# EAGLE library part MAX1169 (library be_dac)
edited: Mario Blunk / Blunk electronic
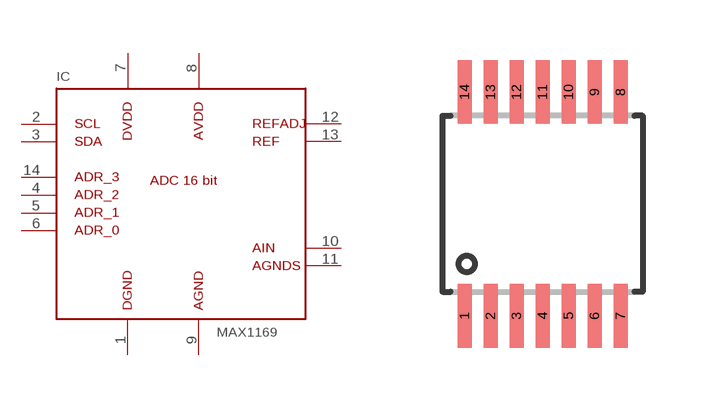
[diagram p4: symbol with the pads of S_TSSOP14; footprint S_TSSOP14]

Designator prefix IC

## MAX1169BEUD+ (BOM: YES; COMMISSIONED: 2018-08-02; PART_CODE_BEL: IC_PAC_S_TSSOP14_VAL_MAX1169BEUD+)  [S_TSSOP14]
1  DGND  pwr
2  SCL
3  SDA
4  ADR_2  in
5  ADR_1  in
6  ADR_0  in
7  DVDD  pwr
8  AVDD  pwr
9  AGND  pwr
10  AIN  in
11  AGNDS  in
12  REFADJ  pas
13  REF  pas
14  ADR_3  in

## Footprint S_TSSOP14 (pad centres in mm)
edited: Mario Blunk / Blunk electronic date: 2018-08-02
smd 0.35 x 1.6: 1 -1.95,-2.8; 2 -1.3,-2.8; 3 -0.65,-2.8; 4 0,-2.8; 5 0.65,-2.8; 6 1.3,-2.8; 7 1.95,-2.8; 8 1.95,2.8; 9 1.3,2.8; 10 0.65,2.8; 11 0,2.8; 12 -0.65,2.8; 13 -1.3,2.8; 14 -1.95,2.8